# EAGLE library part FT2232D (library IC_Interface)
USB Bridge, USB to UART USB 2.0 UART Interface Datasheet <https://www.ftdichip.com/Support/Documents/DataSheets/ICs/DS_FT2232D.pdf>
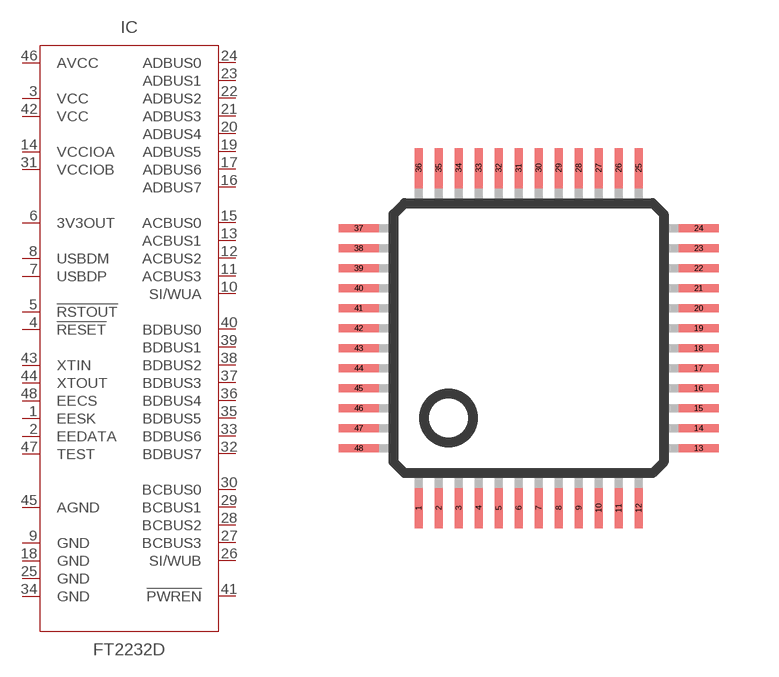
[diagram p1: symbol with the pads of LQFP48; footprint LQFP48]

Designator prefix IC

## FT2232D_LQFP (CATEGORY: IC_Interface; MANUFACTURER: FTDI Chip; MPN: FT2232D; OPERATING_TEMP: -40 to 85°C; PART_STATUS: Active; ROHS_COMPLIANT: Compliant; SUB-CATEGORY: Controller; THERMALLOSS: 0.5W; TYPE: USB to UART; VALUE: FT2232D)  [LQFP48]
1  EESK  out
2  EEDATA
3  VCC  pwr
4  !RESET  in
5  !RSTOUT  out
6  3V3OUT  out
7  USBDP
8  USBDM
9  GND  pwr
10  SI/WUA  in
11  ACBUS3
12  ACBUS2
13  ACBUS1
14  VCCIOA  pwr
15  ACBUS0
16  ADBUS7
17  ADBUS6
18  GND  pwr
19  ADBUS5
20  ADBUS4
21  ADBUS3
22  ADBUS2
23  ADBUS1
24  ADBUS0
25  GND  pwr
26  SI/WUB  in
27  BCBUS3
28  BCBUS2
29  BCBUS1
30  BCBUS0
31  VCCIOB  pwr
32  BDBUS7
33  BDBUS6
34  GND  pwr
35  BDBUS5
36  BDBUS4
37  BDBUS3
38  BDBUS2
39  BDBUS1
40  BDBUS0
41  !PWREN  out
42  VCC  pwr
43  XTIN  in
44  XTOUT  out
45  AGND  pwr
46  AVCC  pwr
47  TEST  in
48  EECS

## Footprint LQFP48 (pad centres in mm)
48-pin plastic LQFP (FPT-48P-M26) www.fma.fujitsu.com/pdf/e713717.pdf
smd 0.2 x 1: 1 -2.75,-4.25; 2 -2.25,-4.25; 3 -1.75,-4.25; 4 -1.25,-4.25; 5 -0.75,-4.25; 6 -0.25,-4.25; 7 0.25,-4.25; 8 0.75,-4.25; 9 1.25,-4.25; 10 1.75,-4.25; 11 2.25,-4.25; 12 2.75,-4.25; 25 2.75,4.25; 26 2.25,4.25; 27 1.75,4.25; 28 1.25,4.25; 29 0.75,4.25; 30 0.25,4.25; 31 -0.25,4.25; 32 -0.75,4.25; 33 -1.25,4.25; 34 -1.75,4.25; 35 -2.25,4.25; 36 -2.75,4.25
smd 1 x 0.2: 13 4.25,-2.75; 14 4.25,-2.25; 15 4.25,-1.75; 16 4.25,-1.25; 17 4.25,-0.75; 18 4.25,-0.25; 19 4.25,0.25; 20 4.25,0.75; 21 4.25,1.25; 22 4.25,1.75; 23 4.25,2.25; 24 4.25,2.75; 37 -4.25,2.75; 38 -4.25,2.25; 39 -4.25,1.75; 40 -4.25,1.25; 41 -4.25,0.75; 42 -4.25,0.25; 43 -4.25,-0.25; 44 -4.25,-0.75; 45 -4.25,-1.25; 46 -4.25,-1.75; 47 -4.25,-2.25; 48 -4.25,-2.75